# EAGLE library part EPM9560-PQ208 (library altera_pga84)
EPM9560 MAX 9000 family
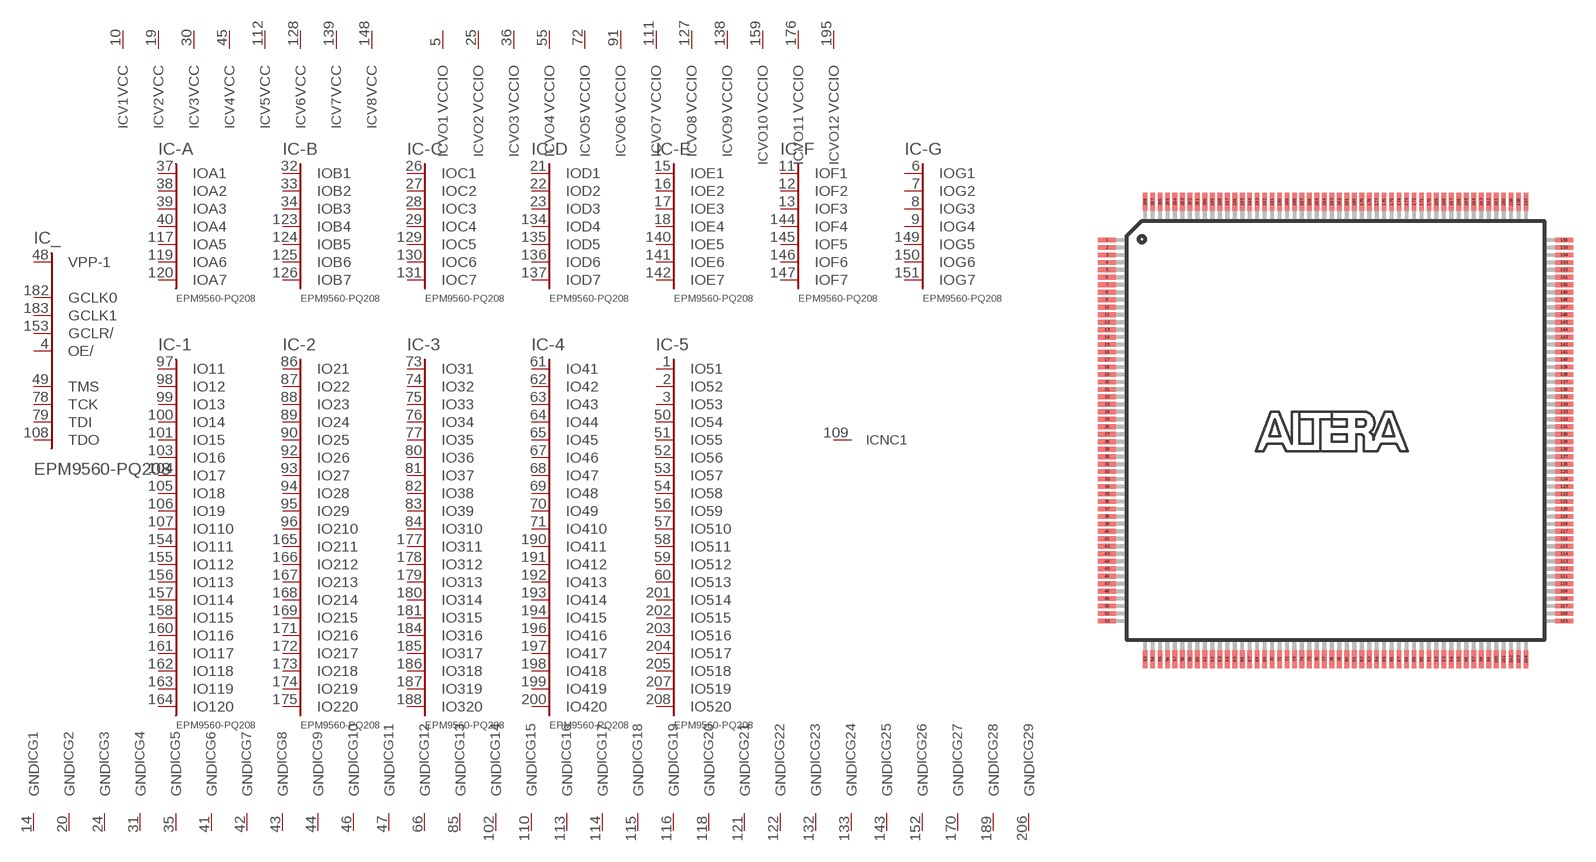
[diagram p22: symbol with the pads of PQFP208; footprint PQFP208]

Designator prefix IC; gates _=9560C356 -A=A7 -B=B7 -C=C7 -D=D7 -E=E7 -F=F7 -G=G7 -1=IO120 -2=IO220 -3=IO320 -4=IO420 -5=IO520 V1=VCCINT V2=VCCINT V3=VCCINT V4=VCCINT V5=VCCINT V6=VCCINT V7=VCCINT V8=VCCINT VO1=VCCIO VO2=VCCIO VO3=VCCIO VO4=VCCIO VO5=VCCIO VO6=VCCIO VO7=VCCIO VO8=VCCIO VO9=VCCIO VO10=VCCIO VO11=VCCIO VO12=VCCIO G1=GND G2=GND G3=GND G4=GND G5=GND G6=GND G7=GND G8=GND G9=GND G10=GND G11=GND G12=GND G13=GND G14=GND G15=GND G16=GND G17=GND G18=GND G19=GND G20=GND G21=GND G22=GND G23=GND G24=GND G25=GND G26=GND G27=GND G28=GND G29=GND NC1=NC

## EPM9560-PQ208 (MPN: EPM9560ARC208-10; OC_FARNELL: unknown; OC_NEWARK: 51R9961)  [PQFP208]
1  -5:IO51
2  -5:IO52
3  -5:IO53
4  _:OE/  in
5  VO1:VCCIO  pwr
6  -G:IOG1
7  -G:IOG2
8  -G:IOG3
9  -G:IOG4
10  V1:VCC  pwr
11  -F:IOF1
12  -F:IOF2
13  -F:IOF3
14  G1:GND  pwr
15  -E:IOE1
16  -E:IOE2
17  -E:IOE3
18  -E:IOE4
19  V2:VCC  pwr
20  G2:GND  pwr
21  -D:IOD1
22  -D:IOD2
23  -D:IOD3
24  G3:GND  pwr
25  VO2:VCCIO  pwr
26  -C:IOC1
27  -C:IOC2
28  -C:IOC3
29  -C:IOC4
30  V3:VCC  pwr
31  G4:GND  pwr
32  -B:IOB1
33  -B:IOB2
34  -B:IOB3
35  G5:GND  pwr
36  VO3:VCCIO  pwr
37  -A:IOA1
38  -A:IOA2
39  -A:IOA3
40  -A:IOA4
41  G6:GND  pwr
42  G7:GND  pwr
43  G8:GND  pwr
44  G9:GND  pwr
45  V4:VCC  pwr
46  G10:GND  pwr
47  G11:GND  pwr
48  _:VPP-1  in
49  _:TMS
50  -5:IO54
51  -5:IO55
52  -5:IO56
53  -5:IO57
54  -5:IO58
55  VO4:VCCIO  pwr
56  -5:IO59
57  -5:IO510
58  -5:IO511
59  -5:IO512
60  -5:IO513
61  -4:IO41
62  -4:IO42
63  -4:IO43
64  -4:IO44
65  -4:IO45
66  G12:GND  pwr
67  -4:IO46
68  -4:IO47
69  -4:IO48
70  -4:IO49
71  -4:IO410
72  VO5:VCCIO  pwr
73  -3:IO31
74  -3:IO32
75  -3:IO33
76  -3:IO34
77  -3:IO35
78  _:TCK
79  _:TDI
80  -3:IO36
81  -3:IO37
82  -3:IO38
83  -3:IO39
84  -3:IO310
85  G13:GND  pwr
86  -2:IO21
87  -2:IO22
88  -2:IO23
89  -2:IO24
90  -2:IO25
91  VO6:VCCIO  pwr
92  -2:IO26
93  -2:IO27
94  -2:IO28
95  -2:IO29
96  -2:IO210
97  -1:IO11
98  -1:IO12
99  -1:IO13
100  -1:IO14
101  -1:IO15
102  G14:GND  pwr
103  -1:IO16
104  -1:IO17
105  -1:IO18
106  -1:IO19
107  -1:IO110
108  _:TDO
109  NC1:NC  nc
110  G15:GND  pwr
111  VO7:VCCIO  pwr
112  V5:VCC  pwr
113  G16:GND  pwr
114  G17:GND  pwr
115  G18:GND  pwr
116  G19:GND  pwr
117  -A:IOA5
118  G20:GND  pwr
119  -A:IOA6
120  -A:IOA7
121  G21:GND  pwr
122  G22:GND  pwr
123  -B:IOB4
124  -B:IOB5
125  -B:IOB6
126  -B:IOB7
127  VO8:VCCIO  pwr
128  V6:VCC  pwr
129  -C:IOC5
130  -C:IOC6
131  -C:IOC7
132  G23:GND  pwr
133  G24:GND  pwr
134  -D:IOD4
135  -D:IOD5
136  -D:IOD6
137  -D:IOD7
138  VO9:VCCIO  pwr
139  V7:VCC  pwr
140  -E:IOE5
141  -E:IOE6
142  -E:IOE7
143  G25:GND  pwr
144  -F:IOF4
145  -F:IOF5
146  -F:IOF6
147  -F:IOF7
148  V8:VCC  pwr
149  -G:IOG5
150  -G:IOG6
151  -G:IOG7
152  G26:GND  pwr
153  _:GCLR/  in
154  -1:IO111
155  -1:IO112
156  -1:IO113
157  -1:IO114
158  -1:IO115
159  VO10:VCCIO  pwr
160  -1:IO116
161  -1:IO117
162  -1:IO118
163  -1:IO119
164  -1:IO120
165  -2:IO211
166  -2:IO212
167  -2:IO213
168  -2:IO214
169  -2:IO215
170  G27:GND  pwr
171  -2:IO216
172  -2:IO217
173  -2:IO218
174  -2:IO219
175  -2:IO220
176  VO11:VCCIO  pwr
177  -3:IO311
178  -3:IO312
179  -3:IO313
180  -3:IO314
181  -3:IO315
182  _:GCLK0  in
183  _:GCLK1  in
184  -3:IO316
185  -3:IO317
186  -3:IO318
187  -3:IO319
188  -3:IO320
189  G28:GND  pwr
190  -4:IO411
191  -4:IO412
192  -4:IO413
193  -4:IO414
194  -4:IO415
195  VO12:VCCIO  pwr
196  -4:IO416
197  -4:IO417
198  -4:IO418
199  -4:IO419
200  -4:IO420
201  -5:IO514
202  -5:IO515
203  -5:IO516
204  -5:IO517
205  -5:IO518
206  G29:GND  pwr
207  -5:IO519
208  -5:IO520

## Footprint PQFP208 (pad centres in mm)
Plastic Quad Flat Pack
smd 1.2 x 0.32: 1 -15.3,12.75; 2 -15.3,12.25; 3 -15.3,11.75; 4 -15.3,11.25; 5 -15.3,10.75; 6 -15.3,10.25; 7 -15.3,9.75; 8 -15.3,9.25; 9 -15.3,8.75; 10 -15.3,8.25; 11 -15.3,7.75; 12 -15.3,7.25; 13 -15.3,6.75; 14 -15.3,6.25; 15 -15.3,5.75; 16 -15.3,5.25; 17 -15.3,4.75; 18 -15.3,4.25; 19 -15.3,3.75; 20 -15.3,3.25; 21 -15.3,2.75; 22 -15.3,2.25; 23 -15.3,1.75; 24 -15.3,1.25; 25 -15.3,0.75; 26 -15.3,0.25; 27 -15.3,-0.25; 28 -15.3,-0.75; 29 -15.3,-1.25; 30 -15.3,-1.75; 31 -15.3,-2.25; 32 -15.3,-2.75; 33 -15.3,-3.25; 34 -15.3,-3.75; 35 -15.3,-4.25; 36 -15.3,-4.75; 37 -15.3,-5.25; 38 -15.3,-5.75; 39 -15.3,-6.25; 40 -15.3,-6.75; 41 -15.3,-7.25; 42 -15.3,-7.75; 43 -15.3,-8.25; 44 -15.3,-8.75; 45 -15.3,-9.25; 46 -15.3,-9.75; 47 -15.3,-10.25; 48 -15.3,-10.75; 49 -15.3,-11.25; 50 -15.3,-11.75; 51 -15.3,-12.25; 52 -15.3,-12.75; 105 15.3,-12.75; 106 15.3,-12.25; 107 15.3,-11.75; 108 15.3,-11.25; 109 15.3,-10.75; 110 15.3,-10.25; 111 15.3,-9.75; 112 15.3,-9.25; 113 15.3,-8.75; 114 15.3,-8.25; 115 15.3,-7.75; 116 15.3,-7.25; 117 15.3,-6.75; 118 15.3,-6.25; 119 15.3,-5.75; 120 15.3,-5.25; 121 15.3,-4.75; 122 15.3,-4.25; 123 15.3,-3.75; 124 15.3,-3.25; 125 15.3,-2.75; 126 15.3,-2.25; 127 15.3,-1.75; 128 15.3,-1.25; 129 15.3,-0.75; 130 15.3,-0.25; 131 15.3,0.25; 132 15.3,0.75; 133 15.3,1.25; 134 15.3,1.75; 135 15.3,2.25; 136 15.3,2.75; 137 15.3,3.25; 138 15.3,3.75; 139 15.3,4.25; 140 15.3,4.75; 141 15.3,5.25; 142 15.3,5.75; 143 15.3,6.25; 144 15.3,6.75; 145 15.3,7.25; 146 15.3,7.75; 147 15.3,8.25; 148 15.3,8.75; 149 15.3,9.25; 150 15.3,9.75; 151 15.3,10.25; 152 15.3,10.75; 153 15.3,11.25; 154 15.3,11.75; 155 15.3,12.25; 156 15.3,12.75
smd 0.32 x 1.2: 53 -12.75,-15.3; 54 -12.25,-15.3; 55 -11.75,-15.3; 56 -11.25,-15.3; 57 -10.75,-15.3; 58 -10.25,-15.3; 59 -9.75,-15.3; 60 -9.25,-15.3; 61 -8.75,-15.3; 62 -8.25,-15.3; 63 -7.75,-15.3; 64 -7.25,-15.3; 65 -6.75,-15.3; 66 -6.25,-15.3; 67 -5.75,-15.3; 68 -5.25,-15.3; 69 -4.75,-15.3; 70 -4.25,-15.3; 71 -3.75,-15.3; 72 -3.25,-15.3; 73 -2.75,-15.3; 74 -2.25,-15.3; 75 -1.75,-15.3; 76 -1.25,-15.3; 77 -0.75,-15.3; 78 -0.25,-15.3; 79 0.25,-15.3; 80 0.75,-15.3; 81 1.25,-15.3; 82 1.75,-15.3; 83 2.25,-15.3; 84 2.75,-15.3; 85 3.25,-15.3; 86 3.75,-15.3; 87 4.25,-15.3; 88 4.75,-15.3; 89 5.25,-15.3; 90 5.75,-15.3; 91 6.25,-15.3; 92 6.75,-15.3; 93 7.25,-15.3; 94 7.75,-15.3; 95 8.25,-15.3; 96 8.75,-15.3; 97 9.25,-15.3; 98 9.75,-15.3; 99 10.25,-15.3; 100 10.75,-15.3; 101 11.25,-15.3; 102 11.75,-15.3; 103 12.25,-15.3; 104 12.75,-15.3; 157 12.75,15.3; 158 12.25,15.3; 159 11.75,15.3; 160 11.25,15.3; 161 10.75,15.3; 162 10.25,15.3; 163 9.75,15.3; 164 9.25,15.3; 165 8.75,15.3; 166 8.25,15.3; 167 7.75,15.3; 168 7.25,15.3; 169 6.75,15.3; 170 6.25,15.3; 171 5.75,15.3; 172 5.25,15.3; 173 4.75,15.3; 174 4.25,15.3; 175 3.75,15.3; 176 3.25,15.3; 177 2.75,15.3; 178 2.25,15.3; 179 1.75,15.3; 180 1.25,15.3; 181 0.75,15.3; 182 0.25,15.3; 183 -0.25,15.3; 184 -0.75,15.3; 185 -1.25,15.3; 186 -1.75,15.3; 187 -2.25,15.3; 188 -2.75,15.3; 189 -3.25,15.3; 190 -3.75,15.3; 191 -4.25,15.3; 192 -4.75,15.3; 193 -5.25,15.3; 194 -5.75,15.3; 195 -6.25,15.3; 196 -6.75,15.3; 197 -7.25,15.3; 198 -7.75,15.3; 199 -8.25,15.3; 200 -8.75,15.3; 201 -9.25,15.3; 202 -9.75,15.3; 203 -10.25,15.3; 204 -10.75,15.3; 205 -11.25,15.3; 206 -11.75,15.3; 207 -12.25,15.3; 208 -12.75,15.3